# Altium footprint library ADN2817ACPZ-RL7.PcbLib: 3 footprints
Each footprint in its own frame and in the unit in brackets; x right, y up, seen from the top. Pads: shape width x height; smd on the part's side, far side on the other; paste and mask are expansions set on the pad; w line width, h text height; cw(c..) or ccw(c..) is an arc to the next point about the centre after c.
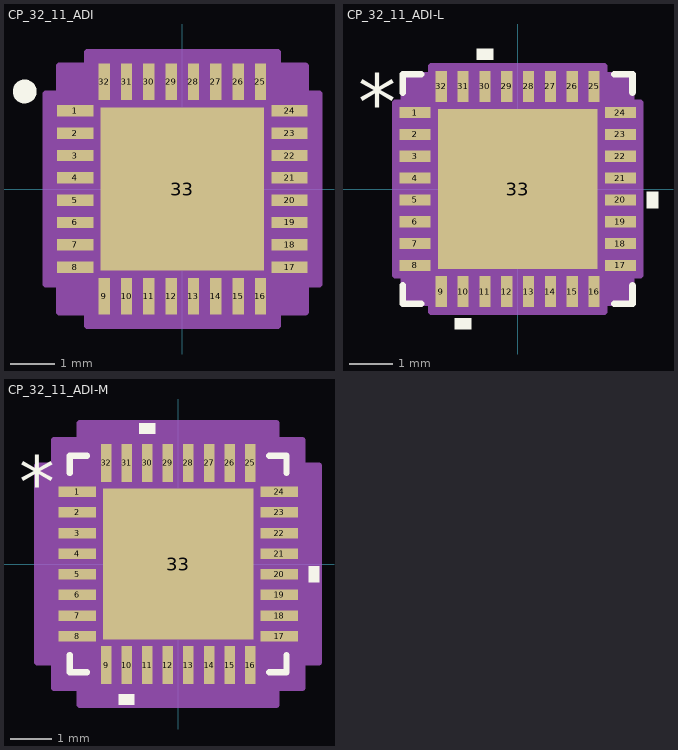
[diagram p0: the footprints below, top view; thin cyan lines are the x and y axes]

## CP_32_11_ADI [mil]
pads (33):
  rect 32x10 smd paste+0 mask+0: 1(-94.5,68.9) 2(-94.5,49.21) 3(-94.5,29.53) 4(-94.5,9.84) 5(-94.5,-9.84) 6(-94.5,-29.53) 7(-94.5,-49.21) 8(-94.5,-68.9) 17(94.5,-68.9) 18(94.5,-49.21) 19(94.5,-29.53) 20(94.5,-9.84) 21(94.5,9.84) 22(94.5,29.53) 23(94.5,49.21) 24(94.5,68.9)
  rect 10x32 smd paste+0 mask+0: 9(-68.9,-94.5) 10(-49.21,-94.5) 11(-29.53,-94.5) 12(-9.84,-94.5) 13(9.84,-94.5) 14(29.53,-94.5) 15(49.21,-94.5) 16(68.9,-94.5) 25(68.9,94.5) 26(49.21,94.5) 27(29.53,94.5) 28(9.84,94.5) 29(-9.84,94.5) 30(-29.53,94.5) 31(-49.21,94.5) 32(-68.9,94.5)
  rect 144x144 smd paste-72 mask+0: 33(0,0)
Top Overlay:
  circle w11: c-139,86 r5
Top Paste:
  region: -3.94,68.06 -68.06,68.06 -68.06,3.94 -3.94,3.94
  region: -3.94,-3.94 -68.06,-3.94 -68.06,-68.06 -3.94,-68.06
  region: 68.06,68.06 3.94,68.06 3.94,3.94 68.06,3.94
  region: 68.06,-3.94 3.94,-3.94 3.94,-68.06 68.06,-68.06
Mechanical 13:
  lines w1: -98.5,48.5 -48.5,98.5 ; -98.5,-98.5 98.5,-98.5 98.5,98.5 -98.5,98.5 -98.5,-98.5 ; -98.5,-74.9 -98.5,-62.9 -98.5,-74.9 ; -98.5,-55.21 -98.5,-43.21 -98.5,-55.21 ; -98.5,-35.53 -98.5,-23.53 -98.5,-35.53 ; -98.5,-15.84 -98.5,-3.84 -98.5,-15.84 ; -98.5,3.84 -98.5,15.84 -98.5,3.84 ; -98.5,23.53 -98.5,35.53 -98.5,23.53 ; -98.5,43.21 -98.5,55.21 -98.5,43.21 ; -98.5,62.9 -98.5,74.9 -98.5,62.9 ; -74.9,-98.5 -62.9,-98.5 -74.9,-98.5 ; -74.9,98.5 -62.9,98.5 -74.9,98.5 ; -55.21,-98.5 -43.21,-98.5 -55.21,-98.5 ; -55.21,98.5 -43.21,98.5 -55.21,98.5 ; -35.53,-98.5 -23.53,-98.5 -35.53,-98.5 ; -35.53,98.5 -23.53,98.5 -35.53,98.5 ; -15.84,-98.5 -3.84,-98.5 -15.84,-98.5 ; -15.84,98.5 -3.84,98.5 -15.84,98.5 ; 3.84,-98.5 15.84,-98.5 3.84,-98.5 ; 3.84,98.5 15.84,98.5 3.84,98.5 ; 23.53,-98.5 35.53,-98.5 23.53,-98.5 ; 23.53,98.5 35.53,98.5 23.53,98.5 ; 43.21,-98.5 55.21,-98.5 43.21,-98.5 ; 43.21,98.5 55.21,98.5 43.21,98.5 ; 62.9,-98.5 74.9,-98.5 62.9,-98.5 ; 62.9,98.5 74.9,98.5 62.9,98.5 ; 98.5,-74.9 98.5,-62.9 98.5,-74.9 ; 98.5,-55.21 98.5,-43.21 98.5,-55.21 ; 98.5,-35.53 98.5,-23.53 98.5,-35.53 ; 98.5,-15.84 98.5,-3.84 98.5,-15.84 ; 98.5,3.84 98.5,15.84 98.5,3.84 ; 98.5,23.53 98.5,35.53 98.5,23.53 ; 98.5,43.21 98.5,55.21 98.5,43.21 ; 98.5,62.9 98.5,74.9 98.5,62.9
  text "*" at -91,53.74 h50
Mechanical 15:
  region: -83.9,-108.5 -108.5,-108.5 -108.5,-83.9 -120.5,-83.9 -120.5,83.9 -108.5,83.9 -108.5,108.5 -83.9,108.5 -83.9,120.5 83.9,120.5 83.9,108.5 108.5,108.5 108.5,83.9 120.5,83.9 120.5,-83.9 108.5,-83.9 108.5,-108.5 83.9,-108.5 83.9,-120.5 -83.9,-120.5
  lines w6: -120.5,-83.9 -108.5,-83.9 -108.5,-108.5 -83.9,-108.5 -83.9,-120.5 83.9,-120.5 83.9,-108.5 108.5,-108.5 108.5,-83.9 120.5,-83.9 120.5,83.9 108.5,83.9 108.5,108.5 83.9,108.5 83.9,120.5 -83.9,120.5 -83.9,108.5 -108.5,108.5 -108.5,83.9 -120.5,83.9 -120.5,-83.9
3D body "CP_32_11_ADI.step": height 39.09, standoff 0, extent -98.5,-98.5 98.5,98.5

## CP_32_11_ADI-L [mil]
pads (33):
  rect 28x10 smd paste+0 mask+0: 1(-92.5,68.9) 2(-92.5,49.21) 3(-92.5,29.53) 4(-92.5,9.84) 5(-92.5,-9.84) 6(-92.5,-29.53) 7(-92.5,-49.21) 8(-92.5,-68.9) 17(92.5,-68.9) 18(92.5,-49.21) 19(92.5,-29.53) 20(92.5,-9.84) 21(92.5,9.84) 22(92.5,29.53) 23(92.5,49.21) 24(92.5,68.9)
  rect 10x28 smd paste+0 mask+0: 9(-68.9,-92.5) 10(-49.21,-92.5) 11(-29.53,-92.5) 12(-9.84,-92.5) 13(9.84,-92.5) 14(29.53,-92.5) 15(49.21,-92.5) 16(68.9,-92.5) 25(68.9,92.5) 26(49.21,92.5) 27(29.53,92.5) 28(9.84,92.5) 29(-9.84,92.5) 30(-29.53,92.5) 31(-49.21,92.5) 32(-68.9,92.5)
  rect 144x144 smd paste-72 mask+0: 33(0,0)
Top Overlay:
  region: -41.71,-116.5 -56.71,-116.5 -56.71,-126.5 -41.71,-126.5
  region: 116.5,-2.34 126.5,-2.34 126.5,-17.34 116.5,-17.34
  region: -22.03,116.5 -37.03,116.5 -37.03,126.5 -22.03,126.5
  lines w6: -103.5,-87 -103.5,-103.5 -87,-103.5 ; -103.5,87 -103.5,103.5 -87,103.5 ; 87,-103.5 103.5,-103.5 103.5,-87 ; 87,103.5 103.5,103.5 103.5,87
  text "*" at -144,53.74 h50
Top Paste:
  region: -3.94,68.06 -68.06,68.06 -68.06,3.94 -3.94,3.94
  region: -3.94,-3.94 -68.06,-3.94 -68.06,-68.06 -3.94,-68.06
  region: 68.06,68.06 3.94,68.06 3.94,3.94 68.06,3.94
  region: 68.06,-3.94 3.94,-3.94 3.94,-68.06 68.06,-68.06
Mechanical 13:
  lines w1: -98.5,48.5 -48.5,98.5 ; -98.5,-98.5 98.5,-98.5 ; -98.5,-98.5 -98.5,98.5 ; -98.5,-98.5 -98.5,-98.5 ; -98.5,-74.9 -98.5,-62.9 ; -98.5,-74.9 -98.5,-62.9 ; -98.5,-74.9 -98.5,-74.9 ; -98.5,-62.9 -98.5,-62.9 ; -98.5,-55.21 -98.5,-43.21 ; -98.5,-55.21 -98.5,-43.21 ; -98.5,-55.21 -98.5,-55.21 ; -98.5,-43.21 -98.5,-43.21 ; -98.5,-35.53 -98.5,-23.53 ; -98.5,-35.53 -98.5,-23.53 ; -98.5,-35.53 -98.5,-35.53 ; -98.5,-23.53 -98.5,-23.53 ; -98.5,-15.84 -98.5,-3.84 ; -98.5,-15.84 -98.5,-3.84 ; -98.5,-15.84 -98.5,-15.84 ; -98.5,-3.84 -98.5,-3.84 ; -98.5,3.84 -98.5,15.84 ; -98.5,3.84 -98.5,15.84 ; -98.5,3.84 -98.5,3.84 ; -98.5,15.84 -98.5,15.84 ; -98.5,23.53 -98.5,35.53 ; -98.5,23.53 -98.5,35.53 ; -98.5,23.53 -98.5,23.53 ; -98.5,35.53 -98.5,35.53 ; -98.5,43.21 -98.5,55.21 ; -98.5,43.21 -98.5,55.21 ; -98.5,43.21 -98.5,43.21 ; -98.5,55.21 -98.5,55.21 ; -98.5,62.9 -98.5,74.9 ; -98.5,62.9 -98.5,74.9 ; -98.5,62.9 -98.5,62.9 ; -98.5,74.9 -98.5,74.9 ; -98.5,98.5 98.5,98.5 ; -98.5,98.5 -98.5,98.5 ; -74.9,-98.5 -62.9,-98.5 ; -74.9,-98.5 -74.9,-98.5 ; -74.9,-98.5 -62.9,-98.5 ; -74.9,98.5 -62.9,98.5 ; -74.9,98.5 -62.9,98.5 ; -74.9,98.5 -74.9,98.5 ; -62.9,-98.5 -62.9,-98.5 ; -62.9,98.5 -62.9,98.5 ; -55.21,-98.5 -43.21,-98.5 ; -55.21,-98.5 -55.21,-98.5 ; -55.21,-98.5 -43.21,-98.5 ; -55.21,98.5 -43.21,98.5 ; -55.21,98.5 -43.21,98.5 ; -55.21,98.5 -55.21,98.5 ; -43.21,-98.5 -43.21,-98.5 ; -43.21,98.5 -43.21,98.5 ; -35.53,-98.5 -23.53,-98.5 ; -35.53,-98.5 -35.53,-98.5 ; -35.53,-98.5 -23.53,-98.5 ; -35.53,98.5 -23.53,98.5 ; -35.53,98.5 -23.53,98.5 ; -35.53,98.5 -35.53,98.5 ; -23.53,-98.5 -23.53,-98.5 ; -23.53,98.5 -23.53,98.5 ; -15.84,-98.5 -3.84,-98.5 ; -15.84,-98.5 -15.84,-98.5 ; -15.84,-98.5 -3.84,-98.5 ; -15.84,98.5 -3.84,98.5 ; -15.84,98.5 -3.84,98.5 ; -15.84,98.5 -15.84,98.5 ; -3.84,-98.5 -3.84,-98.5 ; -3.84,98.5 -3.84,98.5 ; 3.84,-98.5 15.84,-98.5 ; 3.84,-98.5 3.84,-98.5 ; 3.84,-98.5 15.84,-98.5 ; 3.84,98.5 15.84,98.5 ; 3.84,98.5 15.84,98.5 ; 3.84,98.5 3.84,98.5 ; 15.84,-98.5 15.84,-98.5 ; 15.84,98.5 15.84,98.5 ; 23.53,-98.5 35.53,-98.5 ; 23.53,-98.5 23.53,-98.5 ; 23.53,-98.5 35.53,-98.5 ; 23.53,98.5 35.53,98.5 ; 23.53,98.5 35.53,98.5 ; 23.53,98.5 23.53,98.5 ; 35.53,-98.5 35.53,-98.5 ; 35.53,98.5 35.53,98.5 ; 43.21,-98.5 55.21,-98.5 ; 43.21,-98.5 43.21,-98.5 ; 43.21,-98.5 55.21,-98.5 ; 43.21,98.5 55.21,98.5 ; 43.21,98.5 55.21,98.5 ; 43.21,98.5 43.21,98.5 ; 55.21,-98.5 55.21,-98.5 ; 55.21,98.5 55.21,98.5 ; 62.9,-98.5 74.9,-98.5 ; 62.9,-98.5 62.9,-98.5 ; 62.9,-98.5 74.9,-98.5 ; 62.9,98.5 74.9,98.5 ; 62.9,98.5 74.9,98.5 ; 62.9,98.5 62.9,98.5 ; 74.9,-98.5 74.9,-98.5 ; 74.9,98.5 74.9,98.5 ; 98.5,-98.5 98.5,-98.5 ; 98.5,-98.5 98.5,98.5 ; 98.5,-74.9 98.5,-62.9 ; 98.5,-74.9 98.5,-74.9 ; 98.5,-74.9 98.5,-62.9 ; 98.5,-62.9 98.5,-62.9 ; 98.5,-55.21 98.5,-43.21 ; 98.5,-55.21 98.5,-55.21 ; 98.5,-55.21 98.5,-43.21 ; 98.5,-43.21 98.5,-43.21 ; 98.5,-35.53 98.5,-23.53 ; 98.5,-35.53 98.5,-35.53 ; 98.5,-35.53 98.5,-23.53 ; 98.5,-23.53 98.5,-23.53 ; 98.5,-15.84 98.5,-3.84 ; 98.5,-15.84 98.5,-15.84 ; 98.5,-15.84 98.5,-3.84 ; 98.5,-3.84 98.5,-3.84 ; 98.5,3.84 98.5,15.84 ; 98.5,3.84 98.5,3.84 ; 98.5,3.84 98.5,15.84 ; 98.5,15.84 98.5,15.84 ; 98.5,23.53 98.5,35.53 ; 98.5,23.53 98.5,23.53 ; 98.5,23.53 98.5,35.53 ; 98.5,35.53 98.5,35.53 ; 98.5,43.21 98.5,55.21 ; 98.5,43.21 98.5,43.21 ; 98.5,43.21 98.5,55.21 ; 98.5,55.21 98.5,55.21 ; 98.5,62.9 98.5,74.9 ; 98.5,62.9 98.5,62.9 ; 98.5,62.9 98.5,74.9 ; 98.5,74.9 98.5,74.9 ; 98.5,98.5 98.5,98.5
  text "*" at -91,53.74 h50
Mechanical 15:
  region: -77.9,-102.5 -102.5,-102.5 -102.5,-77.9 -110.5,-77.9 -110.5,77.9 -102.5,77.9 -102.5,102.5 -77.9,102.5 -77.9,110.5 77.9,110.5 77.9,102.5 102.5,102.5 102.5,77.9 110.5,77.9 110.5,-77.9 102.5,-77.9 102.5,-102.5 77.9,-102.5 77.9,-110.5 -77.9,-110.5
  lines w6: -110.5,-77.9 -102.5,-77.9 -102.5,-102.5 -77.9,-102.5 -77.9,-110.5 77.9,-110.5 77.9,-102.5 102.5,-102.5 102.5,-77.9 110.5,-77.9 110.5,77.9 102.5,77.9 102.5,102.5 77.9,102.5 77.9,110.5 -77.9,110.5 -77.9,102.5 -102.5,102.5 -102.5,77.9 -110.5,77.9 -110.5,-77.9
3D body "CP_32_11_ADI.step": height 39.09, standoff 0, extent -98.5,-98.5 98.5,98.5

## CP_32_11_ADI-M [mil]
pads (33):
  rect 36x10 smd paste+0 mask+0: 1(-96.5,68.9) 2(-96.5,49.21) 3(-96.5,29.53) 4(-96.5,9.84) 5(-96.5,-9.84) 6(-96.5,-29.53) 7(-96.5,-49.21) 8(-96.5,-68.9) 17(96.5,-68.9) 18(96.5,-49.21) 19(96.5,-29.53) 20(96.5,-9.84) 21(96.5,9.84) 22(96.5,29.53) 23(96.5,49.21) 24(96.5,68.9)
  rect 10x36 smd paste+0 mask+0: 9(-68.9,-96.5) 10(-49.21,-96.5) 11(-29.53,-96.5) 12(-9.84,-96.5) 13(9.84,-96.5) 14(29.53,-96.5) 15(49.21,-96.5) 16(68.9,-96.5) 25(68.9,96.5) 26(49.21,96.5) 27(29.53,96.5) 28(9.84,96.5) 29(-9.84,96.5) 30(-29.53,96.5) 31(-49.21,96.5) 32(-68.9,96.5)
  rect 144x144 smd paste-72 mask+0: 33(0,0)
Top Overlay:
  region: -41.71,-124.5 -56.71,-124.5 -56.71,-134.5 -41.71,-134.5
  region: 124.5,-2.34 134.5,-2.34 134.5,-17.34 124.5,-17.34
  region: -22.03,124.5 -37.03,124.5 -37.03,134.5 -22.03,134.5
  lines w6: -103.5,-87 -103.5,-103.5 -87,-103.5 ; -103.5,87 -103.5,103.5 -87,103.5 ; 87,-103.5 103.5,-103.5 103.5,-87 ; 87,103.5 103.5,103.5 103.5,87
  text "*" at -152,53.74 h50
Top Paste:
  region: -3.94,68.06 -68.06,68.06 -68.06,3.94 -3.94,3.94
  region: -3.94,-3.94 -68.06,-3.94 -68.06,-68.06 -3.94,-68.06
  region: 68.06,68.06 3.94,68.06 3.94,3.94 68.06,3.94
  region: 68.06,-3.94 3.94,-3.94 3.94,-68.06 68.06,-68.06
Mechanical 13:
  lines w1: -98.5,48.5 -48.5,98.5 ; -98.5,-98.5 98.5,-98.5 ; -98.5,-98.5 -98.5,98.5 ; -98.5,-98.5 -98.5,-98.5 ; -98.5,-74.9 -98.5,-62.9 ; -98.5,-74.9 -98.5,-62.9 ; -98.5,-74.9 -98.5,-74.9 ; -98.5,-62.9 -98.5,-62.9 ; -98.5,-55.21 -98.5,-43.21 ; -98.5,-55.21 -98.5,-43.21 ; -98.5,-55.21 -98.5,-55.21 ; -98.5,-43.21 -98.5,-43.21 ; -98.5,-35.53 -98.5,-23.53 ; -98.5,-35.53 -98.5,-23.53 ; -98.5,-35.53 -98.5,-35.53 ; -98.5,-23.53 -98.5,-23.53 ; -98.5,-15.84 -98.5,-3.84 ; -98.5,-15.84 -98.5,-3.84 ; -98.5,-15.84 -98.5,-15.84 ; -98.5,-3.84 -98.5,-3.84 ; -98.5,3.84 -98.5,15.84 ; -98.5,3.84 -98.5,15.84 ; -98.5,3.84 -98.5,3.84 ; -98.5,15.84 -98.5,15.84 ; -98.5,23.53 -98.5,35.53 ; -98.5,23.53 -98.5,35.53 ; -98.5,23.53 -98.5,23.53 ; -98.5,35.53 -98.5,35.53 ; -98.5,43.21 -98.5,55.21 ; -98.5,43.21 -98.5,55.21 ; -98.5,43.21 -98.5,43.21 ; -98.5,55.21 -98.5,55.21 ; -98.5,62.9 -98.5,74.9 ; -98.5,62.9 -98.5,74.9 ; -98.5,62.9 -98.5,62.9 ; -98.5,74.9 -98.5,74.9 ; -98.5,98.5 98.5,98.5 ; -98.5,98.5 -98.5,98.5 ; -74.9,-98.5 -62.9,-98.5 ; -74.9,-98.5 -74.9,-98.5 ; -74.9,-98.5 -62.9,-98.5 ; -74.9,98.5 -62.9,98.5 ; -74.9,98.5 -62.9,98.5 ; -74.9,98.5 -74.9,98.5 ; -62.9,-98.5 -62.9,-98.5 ; -62.9,98.5 -62.9,98.5 ; -55.21,-98.5 -43.21,-98.5 ; -55.21,-98.5 -55.21,-98.5 ; -55.21,-98.5 -43.21,-98.5 ; -55.21,98.5 -43.21,98.5 ; -55.21,98.5 -43.21,98.5 ; -55.21,98.5 -55.21,98.5 ; -43.21,-98.5 -43.21,-98.5 ; -43.21,98.5 -43.21,98.5 ; -35.53,-98.5 -23.53,-98.5 ; -35.53,-98.5 -35.53,-98.5 ; -35.53,-98.5 -23.53,-98.5 ; -35.53,98.5 -23.53,98.5 ; -35.53,98.5 -23.53,98.5 ; -35.53,98.5 -35.53,98.5 ; -23.53,-98.5 -23.53,-98.5 ; -23.53,98.5 -23.53,98.5 ; -15.84,-98.5 -3.84,-98.5 ; -15.84,-98.5 -15.84,-98.5 ; -15.84,-98.5 -3.84,-98.5 ; -15.84,98.5 -3.84,98.5 ; -15.84,98.5 -3.84,98.5 ; -15.84,98.5 -15.84,98.5 ; -3.84,-98.5 -3.84,-98.5 ; -3.84,98.5 -3.84,98.5 ; 3.84,-98.5 15.84,-98.5 ; 3.84,-98.5 3.84,-98.5 ; 3.84,-98.5 15.84,-98.5 ; 3.84,98.5 15.84,98.5 ; 3.84,98.5 15.84,98.5 ; 3.84,98.5 3.84,98.5 ; 15.84,-98.5 15.84,-98.5 ; 15.84,98.5 15.84,98.5 ; 23.53,-98.5 35.53,-98.5 ; 23.53,-98.5 23.53,-98.5 ; 23.53,-98.5 35.53,-98.5 ; 23.53,98.5 35.53,98.5 ; 23.53,98.5 35.53,98.5 ; 23.53,98.5 23.53,98.5 ; 35.53,-98.5 35.53,-98.5 ; 35.53,98.5 35.53,98.5 ; 43.21,-98.5 55.21,-98.5 ; 43.21,-98.5 43.21,-98.5 ; 43.21,-98.5 55.21,-98.5 ; 43.21,98.5 55.21,98.5 ; 43.21,98.5 55.21,98.5 ; 43.21,98.5 43.21,98.5 ; 55.21,-98.5 55.21,-98.5 ; 55.21,98.5 55.21,98.5 ; 62.9,-98.5 74.9,-98.5 ; 62.9,-98.5 62.9,-98.5 ; 62.9,-98.5 74.9,-98.5 ; 62.9,98.5 74.9,98.5 ; 62.9,98.5 74.9,98.5 ; 62.9,98.5 62.9,98.5 ; 74.9,-98.5 74.9,-98.5 ; 74.9,98.5 74.9,98.5 ; 98.5,-98.5 98.5,-98.5 ; 98.5,-98.5 98.5,98.5 ; 98.5,-74.9 98.5,-62.9 ; 98.5,-74.9 98.5,-74.9 ; 98.5,-74.9 98.5,-62.9 ; 98.5,-62.9 98.5,-62.9 ; 98.5,-55.21 98.5,-43.21 ; 98.5,-55.21 98.5,-55.21 ; 98.5,-55.21 98.5,-43.21 ; 98.5,-43.21 98.5,-43.21 ; 98.5,-35.53 98.5,-23.53 ; 98.5,-35.53 98.5,-35.53 ; 98.5,-35.53 98.5,-23.53 ; 98.5,-23.53 98.5,-23.53 ; 98.5,-15.84 98.5,-3.84 ; 98.5,-15.84 98.5,-15.84 ; 98.5,-15.84 98.5,-3.84 ; 98.5,-3.84 98.5,-3.84 ; 98.5,3.84 98.5,15.84 ; 98.5,3.84 98.5,3.84 ; 98.5,3.84 98.5,15.84 ; 98.5,15.84 98.5,15.84 ; 98.5,23.53 98.5,35.53 ; 98.5,23.53 98.5,23.53 ; 98.5,23.53 98.5,35.53 ; 98.5,35.53 98.5,35.53 ; 98.5,43.21 98.5,55.21 ; 98.5,43.21 98.5,43.21 ; 98.5,43.21 98.5,55.21 ; 98.5,55.21 98.5,55.21 ; 98.5,62.9 98.5,74.9 ; 98.5,62.9 98.5,62.9 ; 98.5,62.9 98.5,74.9 ; 98.5,74.9 98.5,74.9 ; 98.5,98.5 98.5,98.5
  text "*" at -91,53.74 h50
Mechanical 15:
  region: -93.9,-118.5 -118.5,-118.5 -118.5,-93.9 -134.5,-93.9 -134.5,93.9 -118.5,93.9 -118.5,118.5 -93.9,118.5 -93.9,134.5 93.9,134.5 93.9,118.5 118.5,118.5 118.5,93.9 134.5,93.9 134.5,-93.9 118.5,-93.9 118.5,-118.5 93.9,-118.5 93.9,-134.5 -93.9,-134.5
  lines w6: -134.5,-93.9 -118.5,-93.9 -118.5,-118.5 -93.9,-118.5 -93.9,-134.5 93.9,-134.5 93.9,-118.5 118.5,-118.5 118.5,-93.9 134.5,-93.9 134.5,93.9 118.5,93.9 118.5,118.5 93.9,118.5 93.9,134.5 -93.9,134.5 -93.9,118.5 -118.5,118.5 -118.5,93.9 -134.5,93.9 -134.5,-93.9
3D body "CP_32_11_ADI.step": height 39.09, standoff 0, extent -98.5,-98.5 98.5,98.5